# Altium footprint library common.PCBLIB: 88 footprints (part 2 of 6)
Each footprint in its own frame and in the unit in brackets; x right, y up, seen from the top. Pads: shape width x height; smd on the part's side, far side on the other; paste and mask are expansions set on the pad; w line width, h text height; cw(c..) or ccw(c..) is an arc to the next point about the centre after c.
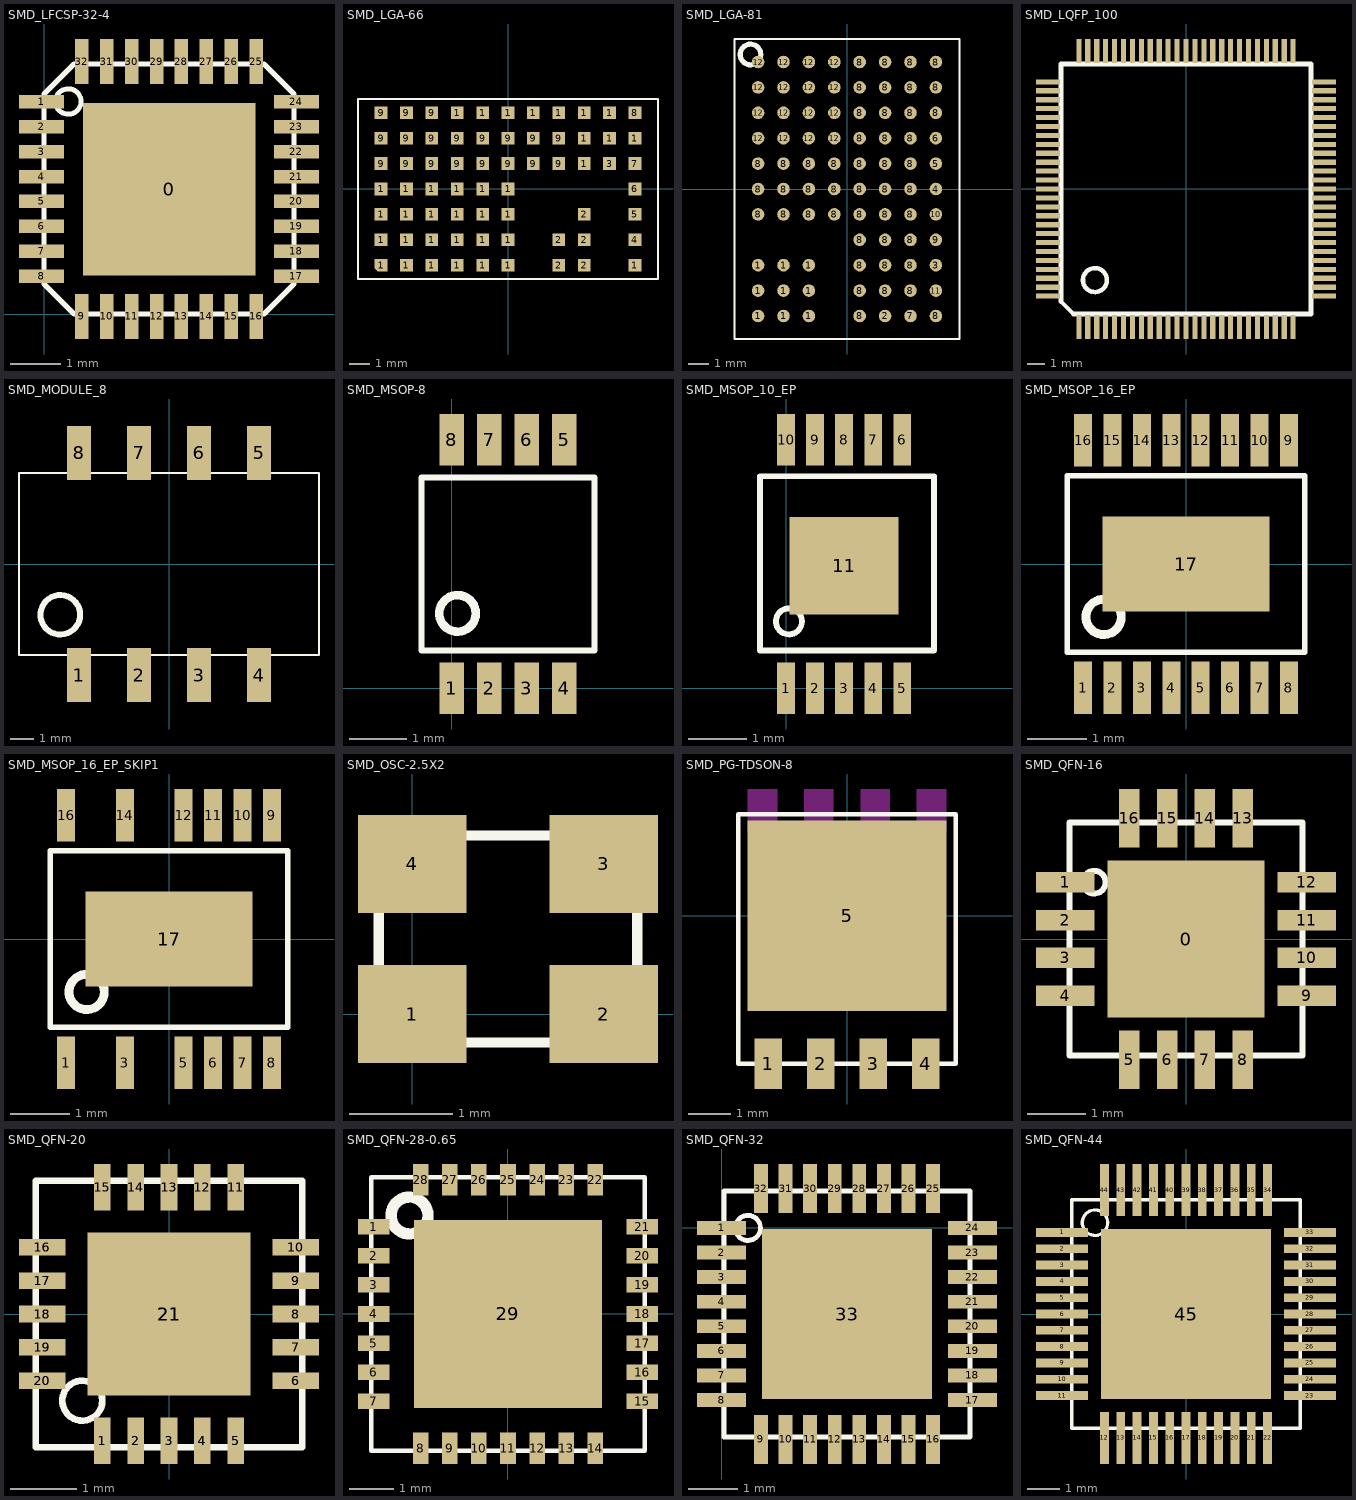
[diagram p1: the footprints below, top view; thin cyan lines are the x and y axes]

## SMD_LFCSP-32-4 [mm] "SMD_LFCSP-32-4"
pads (33):
  rect 3.45x3.45 smd paste-0.06: 0(2.5,2.5)
  rect 0.9x0.27 smd paste-0.025 mask+0.05: 1(-0.05,4.25) 2(-0.05,3.75) 3(-0.05,3.25) 4(-0.05,2.75) 5(-0.05,2.25) 6(-0.05,1.75) 7(-0.05,1.25) 8(-0.05,0.75) 17(5.05,0.75) 18(5.05,1.25) 19(5.05,1.75) 20(5.05,2.25) 21(5.05,2.75) 22(5.05,3.25) 23(5.05,3.75) 24(5.05,4.25)
  rect 0.27x0.9 smd paste-0.025 mask+0.05: 9(0.75,-0.05) 10(1.25,-0.05) 11(1.75,-0.05) 12(2.25,-0.05) 13(2.75,-0.05) 14(3.25,-0.05) 15(3.75,-0.05) 16(4.25,-0.05) 25(4.25,5.05) 26(3.75,5.05) 27(3.25,5.05) 28(2.75,5.05) 29(2.25,5.05) 30(1.75,5.05) 31(1.25,5.05) 32(0.75,5.05)
Top Overlay:
  circle w0.1: c0.485,4.25 r0.255
  lines w0.1: 0,0.6 0,4.4 0.6,5 4.4,5 5,4.4 5,0.6 4.4,0 0.6,0 0,0.6

## SMD_LGA-66 [mm] "SMD LGA66 package"
height 4.32
pads (68):
  oct 0.635x0.635 smd: 1(-6.35,-3.81)
  rect 0.635x0.635 smd: 1(-6.35,-2.54) 1(-6.35,-1.27) 1(-6.35,0) 1(-5.08,-3.81) 1(-5.08,-2.54) 1(-5.08,-1.27) 1(-5.08,0) 1(-3.81,-3.81) 1(-3.81,-2.54) 1(-3.81,-1.27) 1(-3.81,0) 1(-2.54,-3.81) 1(-2.54,-2.54) 1(-2.54,-1.27) 1(-2.54,0) 1(-2.54,3.81) 1(-1.27,-3.81) 1(-1.27,-2.54) 1(-1.27,-1.27) 1(-1.27,0) 1(-1.27,3.81) 1(0,-3.81) 1(0,-2.54) 1(0,-1.27) 1(0,0) 1(0,3.81) 1(1.27,3.81) 1(2.54,3.81) 1(3.81,1.27) 1(3.81,2.54) 1(3.81,3.81) 1(5.08,2.54) 1(5.08,3.81) 1(6.35,-3.81) 1(6.35,2.54) 2(2.54,-3.81) 2(2.54,-2.54) 2(3.81,-3.81) 2(3.81,-2.54) 2(3.81,-1.27) 3(5.08,1.27) 4(6.35,-2.54) 5(6.35,-1.27) 6(6.35,0) 7(6.35,1.27) 8(6.35,3.81) 9(-6.35,1.27) 9(-6.35,2.54) 9(-6.35,3.81) 9(-5.08,1.27) 9(-5.08,2.54) 9(-5.08,3.81) 9(-3.81,1.27) 9(-3.81,2.54) 9(-3.81,3.81) 9(-2.54,1.27) 9(-2.54,2.54) 9(-1.27,1.27) 9(-1.27,2.54) 9(0,1.27) 9(0,2.54) 9(1.27,1.27) 9(1.27,2.54) 9(2.54,1.27) 9(2.54,2.54)
  rect 0.635x0.2 smd: 1(-6.349,-3.593)
  rect 0.2x0.635 smd: 1(-6.132,-3.811)
Top Overlay:
  lines w0.1: -7.5,-4.5 -7.5,4.5 7.5,4.5 7.5,-4.5 -7.5,-4.5

## SMD_LGA-81 [mm] "SMD_LGA-81"
height 2.82
pads (81):
  round 0.63 smd: 1(-4.445,-6.35) 1(-4.445,-5.08) 1(-4.445,-3.81) 1(-3.175,-6.35) 1(-3.175,-5.08) 1(-3.175,-3.81) 1(-1.905,-6.35) 1(-1.905,-5.08) 1(-1.905,-3.81) 2(1.905,-6.35) 3(4.445,-3.81) 4(4.445,0) 5(4.445,1.27) 6(4.445,2.54) 7(3.175,-6.35) 8(-4.445,-1.27) 8(-4.445,0) 8(-4.445,1.27) 8(-3.175,-1.27) 8(-3.175,0) 8(-3.175,1.27) 8(-1.905,-1.27) 8(-1.905,0) 8(-1.905,1.27) 8(-0.635,-1.27) 8(-0.635,0) 8(-0.635,1.27) 8(0.635,-6.35) 8(0.635,-5.08) 8(0.635,-3.81) 8(0.635,-2.54) 8(0.635,-1.27) 8(0.635,0) 8(0.635,1.27) 8(0.635,2.54) 8(0.635,3.81) 8(0.635,5.08) 8(0.635,6.35) 8(1.905,-5.08) 8(1.905,-3.81) 8(1.905,-2.54) 8(1.905,-1.27) 8(1.905,0) 8(1.905,1.27) 8(1.905,2.54) 8(1.905,3.81) 8(1.905,5.08) 8(1.905,6.35) 8(3.175,-5.08) 8(3.175,-3.81) 8(3.175,-2.54) 8(3.175,-1.27) 8(3.175,0) 8(3.175,1.27) 8(3.175,2.54) 8(3.175,3.81) 8(3.175,5.08) 8(3.175,6.35) 8(4.445,-6.35) 8(4.445,3.81) 8(4.445,5.08) 8(4.445,6.35) 9(4.445,-2.54) 10(4.445,-1.27) 11(4.445,-5.08) 12(-4.445,2.54) 12(-4.445,3.81) 12(-4.445,5.08) 12(-4.445,6.35) 12(-3.175,2.54) 12(-3.175,3.81) 12(-3.175,5.08) 12(-3.175,6.35) 12(-1.905,2.54) 12(-1.905,3.81) 12(-1.905,5.08) 12(-1.905,6.35) 12(-0.635,2.54) 12(-0.635,3.81) 12(-0.635,5.08) 12(-0.635,6.35)
Top Overlay:
  circle w0.254: c-4.825,6.725 r0.515
  lines w0.1: -5.625,-7.5 -5.625,7.5 5.625,7.5 5.625,-7.5 -5.625,-7.5

## SMD_LQFP_100 [mm] "SMD_LQFP_100"
height 1.6
pads (100):
  rect 0.29x1.35 smd: 1(-6,-7.725) 2(-5.5,-7.725) 3(-5,-7.725) 4(-4.5,-7.725) 5(-4,-7.725) 6(-3.5,-7.725) 7(-3,-7.725) 8(-2.5,-7.725) 9(-2,-7.725) 10(-1.5,-7.725) 11(-1,-7.725) 12(-0.5,-7.725) 13(0,-7.725) 14(0.5,-7.725) 15(1,-7.725) 16(1.5,-7.725) 17(2,-7.725) 18(2.5,-7.725) 19(3,-7.725) 20(3.5,-7.725) 21(4,-7.725) 22(4.5,-7.725) 23(5,-7.725) 24(5.5,-7.725) 25(6,-7.725) 51(6,7.725) 52(5.5,7.725) 53(5,7.725) 54(4.5,7.725) 55(4,7.725) 56(3.5,7.725) 57(3,7.725) 58(2.5,7.725) 59(2,7.725) 60(1.5,7.725) 61(1,7.725) 62(0.5,7.725) 63(0,7.725) 64(-0.5,7.725) 65(-1,7.725) 66(-1.5,7.725) 67(-2,7.725) 68(-2.5,7.725) 69(-3,7.725) 70(-3.5,7.725) 71(-4,7.725) 72(-4.5,7.725) 73(-5,7.725) 74(-5.5,7.725) 75(-6,7.725)
  rect 1.35x0.29 smd: 26(7.725,-6) 27(7.725,-5.5) 28(7.725,-5) 29(7.725,-4.5) 30(7.725,-4) 31(7.725,-3.5) 32(7.725,-3) 33(7.725,-2.5) 34(7.725,-2) 35(7.725,-1.5) 36(7.725,-1) 37(7.725,-0.5) 38(7.725,0) 39(7.725,0.5) 40(7.725,1) 41(7.725,1.5) 42(7.725,2) 43(7.725,2.5) 44(7.725,3) 45(7.725,3.5) 46(7.725,4) 47(7.725,4.5) 48(7.725,5) 49(7.725,5.5) 50(7.725,6) 76(-7.725,6) 77(-7.725,5.5) 78(-7.725,5) 79(-7.725,4.5) 80(-7.725,4) 81(-7.725,3.5) 82(-7.725,3) 83(-7.725,2.5) 84(-7.725,2) 85(-7.725,1.5) 86(-7.725,1) 87(-7.725,0.5) 88(-7.725,0) 89(-7.725,-0.5) 90(-7.725,-1) 91(-7.725,-1.5) 92(-7.725,-2) 93(-7.725,-2.5) 94(-7.725,-3) 95(-7.725,-3.5) 96(-7.725,-4) 97(-7.725,-4.5) 98(-7.725,-5) 99(-7.725,-5.5) 100(-7.725,-6)
Top Overlay:
  circle w0.254: c-5.1,-5.1 r0.671
  lines w0.254: -7,-6.3 -6.3,-7 7,-7 7,7 -7,7 -7,-6.3

## SMD_MODULE_8 [mm]
pads (8):
  rect 1x2.3 smd: 1(-3.81,-4.7) 2(-1.27,-4.7) 3(1.27,-4.7) 4(3.81,-4.7) 5(3.81,4.7) 6(1.27,4.7) 7(-1.27,4.7) 8(-3.81,4.7)
Top Overlay:
  circle w0.254: c-4.6,-2.15 r0.838
  lines w0.1: -6.35,-3.85 6.35,-3.85 6.35,3.85 -6.35,3.85 -6.35,-3.85

## SMD_MSOP-8 [mm]
height 1.1
pads (8):
  rect 0.42x0.889 smd: 1(0,0) 2(0.65,0) 3(1.3,0) 4(1.95,0) 5(1.95,4.311) 6(1.3,4.311) 7(0.65,4.311) 8(0,4.311)
Top Overlay:
  circle w0.15: c0.1,1.3 r0.316
  lines w0.1: -0.525,0.656 -0.525,3.655 2.475,3.655 2.475,0.656 -0.525,0.656

## SMD_MSOP_10_EP [mm] "SMD_MSOP_10_EP"
height 1.1
pads (11):
  rect 0.305x0.889 smd: 1(0,0) 2(0.5,0) 3(1,0) 4(1.5,0) 5(2,0) 6(2,4.277) 7(1.5,4.277) 8(1,4.277) 9(0.5,4.277) 10(0,4.277)
  rect 1.88x1.68 smd: 11(1,2.107)
Top Overlay:
  circle w0.1: c0.05,1.15 r0.224
  lines w0.1: -0.45,0.65 -0.45,3.65 2.55,3.65 2.55,0.65 -0.45,0.65

## SMD_MSOP_16_EP [mm]
pads (17):
  rect 0.305x0.889 smd: 1(-1.75,-2.105) 2(-1.25,-2.105) 3(-0.75,-2.105) 4(-0.25,-2.105) 5(0.25,-2.105) 6(0.75,-2.105) 7(1.25,-2.105) 8(1.75,-2.105) 9(1.75,2.105) 10(1.25,2.105) 11(0.75,2.105) 12(0.25,2.105) 13(-0.25,2.105) 14(-0.75,2.105) 15(-1.25,2.105) 16(-1.75,2.105)
  rect 2.845x1.615 smd: 17(0,0)
Top Overlay:
  circle w0.15: c-1.4,-0.9 r0.3
  lines w0.1: -2.02,-1.5 2.02,-1.5 2.02,1.5 -2.02,1.5 -2.02,-1.5

## SMD_MSOP_16_EP_SKIP1 [mm]
pads (13):
  rect 0.305x0.889 smd: 1(-1.75,-2.105) 3(-0.75,-2.105) 5(0.25,-2.105) 6(0.75,-2.105) 7(1.25,-2.105) 8(1.75,-2.105) 9(1.75,2.105) 10(1.25,2.105) 11(0.75,2.105) 12(0.25,2.105) 14(-0.75,2.105) 16(-1.75,2.105)
  rect 2.845x1.615 smd: 17(0,0)
Top Overlay:
  circle w0.15: c-1.4,-0.9 r0.3
  lines w0.1: -2.02,-1.5 2.02,-1.5 2.02,1.5 -2.02,1.5 -2.02,-1.5

## SMD_OSC-2.5X2 [mm] "SMD_OSC-2.5X2"
pads (4):
  rect 1.05x0.95 smd: 1(0,0) 2(1.85,0) 3(1.85,1.45) 4(0,1.45)
Top Overlay:
  lines w0.1: -0.325,0.3 0.275,0.3 0.275,-0.275 ; -0.325,-0.275 -0.325,1.725 2.175,1.725 2.175,-0.275 -0.325,-0.275

## SMD_PG-TDSON-8 [mm] "alias: SuperSO8 or S2O8"
height 1
pads (5):
  rect 0.65x1.2 smd: 1(-1.86,-3.5) 2(-0.62,-3.5) 3(0.62,-3.5) 4(1.86,-3.5)
  rect 4.7x4.5 smd: 5(0,0)
Top Layer keep-out:
  rectangle: 1.65,2 2.35,3
  rectangle: 0.315,2 1.015,3
  rectangle: -1.015,2 -0.315,3
  rectangle: -2.35,2 -1.65,3
Top Overlay:
  lines w0.1: -2.575,-3.5 2.575,-3.5 2.575,2.4 -2.575,2.4 -2.575,-3.5

## SMD_QFN-16 [mm] "SMD_QFN-16"
pads (17):
  rect 2.7x2.7 smd paste-0.025 mask+0.07: 0(0,0)
  rect 1x0.35 smd paste-0.025 mask+0.07: 1(-2.075,0.975) 2(-2.075,0.325) 3(-2.075,-0.325) 4(-2.075,-0.975) 9(2.075,-0.975) 10(2.075,-0.325) 11(2.075,0.325) 12(2.075,0.975)
  rect 0.35x1 smd paste-0.025 mask+0.07: 5(-0.975,-2.075) 6(-0.325,-2.075) 7(0.325,-2.075) 8(0.975,-2.075) 13(0.975,2.075) 14(0.325,2.075) 15(-0.325,2.075) 16(-0.975,2.075)
Top Overlay:
  circle w0.1: c-1.575,0.975 r0.195
  lines w0.1: -2,-2 -2,2 2,2 2,-2 -2,-2

## SMD_QFN-20 [mm] "SMD_QFN-20"
height 0.75
pads (42):
  rect 0.25x0.7 smd: 1(-1,-1.9) 1(-1,-1.9) 2(-0.5,-1.9) 2(-0.5,-1.9) 3(0,-1.9) 3(0,-1.9) 4(0.5,-1.9) 4(0.5,-1.9) 5(1,-1.9) 5(1,-1.9) 11(1,1.9) 11(1,1.9) 12(0.5,1.9) 12(0.5,1.9) 13(0,1.9) 13(0,1.9) 14(-0.5,1.9) 14(-0.5,1.9) 15(-1,1.9) 15(-1,1.9)
  rect 0.7x0.25 smd: 6(1.9,-1) 6(1.9,-1) 7(1.9,-0.5) 7(1.9,-0.5) 8(1.9,0) 8(1.9,0) 9(1.9,0.5) 9(1.9,0.5) 10(1.9,1) 10(1.9,1) 16(-1.9,1) 16(-1.9,1) 17(-1.9,0.5) 17(-1.9,0.5) 18(-1.9,0) 18(-1.9,0) 19(-1.9,-0.5) 19(-1.9,-0.5) 20(-1.9,-1) 20(-1.9,-1)
  rect 2.45x2.45 smd: 21(0,0) 21(0,0)
Top Overlay:
  circle w0.1: c-1.3,-1.3 r0.3
  circle w0.1: c-1.3,-1.3 r0.3
  lines w0.1: -2,-2 -2,2 ; -2,-2 2,-2 ; -2,-2 2,-2 ; -2,-2 -2,2 ; -2,2 2,2 ; -2,2 2,2 ; 2,-2 2,2 ; 2,-2 2,2

## SMD_QFN-28-0.65 [mm] "QFN, 28-Leads, Body 6.1x6.1mm (max), Pitch 0.65mm, IPC Medium Density"
height 1
pads (29):
  rect 0.7x0.35 smd: 1(-3,1.95) 2(-3,1.3) 3(-3,0.65) 4(-3,0) 5(-3,-0.65) 6(-3,-1.3) 7(-3,-1.95) 15(3,-1.95) 16(3,-1.3) 17(3,-0.65) 18(3,0) 19(3,0.65) 20(3,1.3) 21(3,1.95)
  rect 0.35x0.7 smd: 8(-1.95,-3) 9(-1.3,-3) 10(-0.65,-3) 11(0,-3) 12(0.65,-3) 13(1.3,-3) 14(1.95,-3) 22(1.95,3) 23(1.3,3) 24(0.65,3) 25(0,3) 26(-0.65,3) 27(-1.3,3) 28(-1.95,3)
  rect 4.2x4.2 smd: 29(0,0)
Top Overlay:
  circle w0.254: c-2.2,2.2 r0.412
  lines w0.1: -3.05,-3.05 -3.05,3.05 3.05,3.05 3.05,-3.05 -3.05,-3.05

## SMD_QFN-32 [mm] "SMD_QFN-32"
pads (33):
  rect 1x0.28 smd mask+0.05: 1(0,0) 2(0,-0.5) 3(0,-1) 4(0,-1.5) 5(0,-2) 6(0,-2.5) 7(0,-3) 8(0,-3.5) 17(5.1,-3.5) 18(5.1,-3) 19(5.1,-2.5) 20(5.1,-2) 21(5.1,-1.5) 22(5.1,-1) 23(5.1,-0.5) 24(5.1,0)
  rect 0.28x1 smd mask+0.05: 9(0.8,-4.3) 10(1.3,-4.3) 11(1.8,-4.3) 12(2.3,-4.3) 13(2.8,-4.3) 14(3.3,-4.3) 15(3.8,-4.3) 16(4.3,-4.3) 25(4.3,0.8) 26(3.8,0.8) 27(3.3,0.8) 28(2.8,0.8) 29(2.3,0.8) 30(1.8,0.8) 31(1.3,0.8) 32(0.8,0.8)
  rect 3.45x3.45 smd: 33(2.55,-1.75)
Top Overlay:
  circle w0.1: c0.535,0 r0.255
  lines w0.1: 0.05,-4.25 5.05,-4.25 5.05,0.75 0.05,0.75 0.05,-4.25

## SMD_QFN-44 [mm] "SMD_QFN-44"
pads (45):
  rect 1.6x0.27 smd mask+0.02: 1(-3.8,2.5) 2(-3.8,2) 3(-3.8,1.5) 4(-3.8,1) 5(-3.8,0.5) 6(-3.8,0) 7(-3.8,-0.5) 8(-3.8,-1) 9(-3.8,-1.5) 10(-3.8,-2) 11(-3.8,-2.5) 23(3.8,-2.5) 24(3.8,-2) 25(3.8,-1.5) 26(3.8,-1) 27(3.8,-0.5) 28(3.8,0) 29(3.8,0.5) 30(3.8,1) 31(3.8,1.5) 32(3.8,2) 33(3.8,2.5)
  rect 0.27x1.6 smd mask+0.02: 12(-2.5,-3.8) 13(-2,-3.8) 14(-1.5,-3.8) 15(-1,-3.8) 16(-0.5,-3.8) 17(0,-3.8) 18(0.5,-3.8) 19(1,-3.8) 20(1.5,-3.8) 21(2,-3.8) 22(2.5,-3.8) 34(2.5,3.8) 35(2,3.8) 36(1.5,3.8) 37(1,3.8) 38(0.5,3.8) 39(0,3.8) 40(-0.5,3.8) 41(-1,3.8) 42(-1.5,3.8) 43(-2,3.8) 44(-2.5,3.8)
  rect 5.2x5.2 smd: 45(0,0)
Top Overlay:
  circle w0.1: c-2.791,2.8 r0.391
  lines w0.1: -3.5,-3.5 -3.5,3.5 3.5,3.5 3.5,-3.5 -3.5,-3.5